# Altium schematic symbol library GENERIC_VARISTOR.SchLib: 1 symbol
Pins are listed as number, name and electrical type; pins without a type are passive.

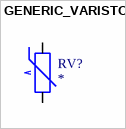
[diagram p0: symbol GENERIC_VARISTOR]

## GENERIC_VARISTOR
designator RV?
pins: 1, 2